# EAGLE library part XBEE (library DorMouse)
XBee (TM) /XBee-PRO(TM) OEM RF Modules Source: MaxStream, Inc. xbee_productmanual.pdf
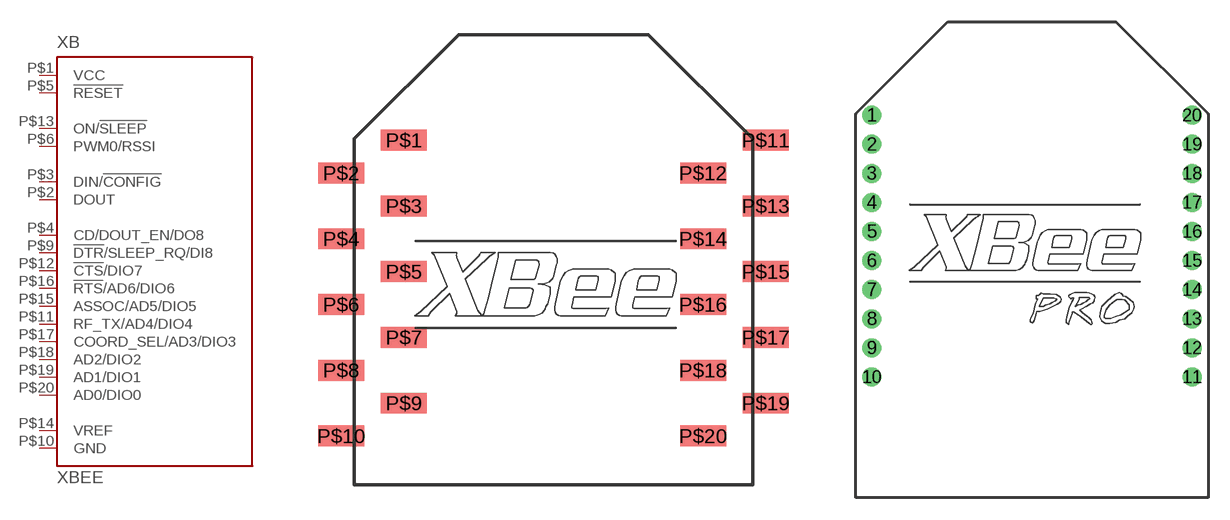
[diagram p6: symbol with the pads of XBEE; footprints XBEE, XBEE-PRO]

Designator prefix XB

## XBEE (MPN: XBP24-Z7UIT-004; OC_FARNELL: 1751799; OC_NEWARK: 34R5507)  [XBEE]
P$1  VCC  pwr
P$2  DOUT  out
P$3  DIN/!CONFIG  in
P$4  CD/DOUT_EN/DO8  out
P$5  !RESET  in
P$6  PWM0/RSSI  out
P$9  !DTR!/SLEEP_RQ/DI8
P$10  GND  pwr
P$11  RF_TX/AD4/DIO4
P$12  !CTS!/DIO7
P$13  ON/!SLEEP  out
P$14  VREF  in
P$15  ASSOC/AD5/DIO5
P$16  !RTS!/AD6/DIO6
P$17  COORD_SEL/AD3/DIO3
P$18  AD2/DIO2
P$19  AD1/DIO1
P$20  AD0/DIO0

## XBEE-PRO (MPN: XBP24-AWI-001; OC_FARNELL: 1337916; OC_NEWARK: 42M2667)  [XBEE-PRO]
1  VCC  pwr
2  DOUT  out
3  DIN/!CONFIG  in
4  CD/DOUT_EN/DO8  out
5  !RESET  in
6  PWM0/RSSI  out
9  !DTR!/SLEEP_RQ/DI8
10  GND  pwr
11  RF_TX/AD4/DIO4
12  !CTS!/DIO7
13  ON/!SLEEP  out
14  VREF  in
15  ASSOC/AD5/DIO5
16  !RTS!/AD6/DIO6
17  COORD_SEL/AD3/DIO3
18  AD2/DIO2
19  AD1/DIO1
20  AD0/DIO0

## Footprint XBEE (pad centres in mm)
XBEE Source: http://www.maxstream.net/products/xbee/datasheet_XBee_OEM_RF-Modules.pdf
smd 2.8 x 1.27: P$1 -9.092,9; P$2 -12.908,7; P$3 -9.092,5; P$4 -12.908,3; P$5 -9.092,1; P$6 -12.908,-1; P$7 -9.092,-3; P$8 -12.908,-5; P$9 -9.092,-7; P$10 -12.908,-9; P$11 12.908,9; P$12 9.092,7; P$13 12.908,5; P$14 9.092,3; P$15 12.908,1; P$16 9.092,-1; P$17 12.908,-3; P$18 9.092,-5; P$19 12.908,-7; P$20 9.092,-9

## Footprint XBEE-PRO (pad centres in mm)
XBEE Pro Source: http://www.maxstream.net/products/xbee/datasheet_XBee_OEM_RF-Modules.pdf
drill 0.8 pad 1.27: 1 -11,9; 2 -11,7; 3 -11,5; 4 -11,3; 5 -11,1; 6 -11,-1; 7 -11,-3; 8 -11,-5; 9 -11,-7; 10 -11,-9; 11 11,-9; 12 11,-7; 13 11,-5; 14 11,-3; 15 11,-1; 16 11,1; 17 11,3; 18 11,5; 19 11,7; 20 11,9